# EAGLE library part TQP3M9036 (library DFN-8)
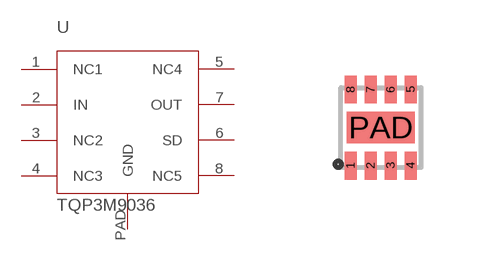
[diagram p0: symbol with the pads of DFN-8_2X2; footprint DFN-8_2X2]

Designator prefix -

## TQP3M9036  [DFN-8_2X2]
1  NC1
2  IN
3  NC2
4  NC3
5  NC4
6  SD
7  OUT
8  NC5
PAD  GND

## Footprint DFN-8_2X2 (pad centres in mm)
Now follows http://pdfserv.maximintegrated.com/land_patterns/90-0065.PDF Pasted was reduced by 40% width on the center ground pad, and some amount on the other 8. Stop mask extends 135 µm wider than the pad to hit dead center of what IPC-7351 recommends.
smd 0.3 x 0.7: 1 -0.75,-0.95; 2 -0.25,-0.95; 3 0.25,-0.95; 4 0.75,-0.95; 5 0.75,0.95; 6 0.25,0.95; 7 -0.25,0.95; 8 -0.75,0.95
smd 1.7 x 0.8: PAD 0,0